# Altium schematic symbol library AP3402KTTR-G1.SchLib: 1 symbol
Pins are listed as number, name and electrical type; pins without a type are passive.

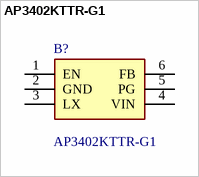
[diagram p0: symbol AP3402KTTR-G1]

## AP3402KTTR-G1
designator B?
Switching Voltage Regulators 1.0MHz 2A Step Down DC-DC Buck 2A Output; Manufacturer_Name: Diodes Inc.; Geometry.Height: 1mm; Manufacturer_Part_Number: AP3402KTTR-G1; Mouser Part Number: 621-AP3402KTTR-G1; Mouser Price/Stock: https://www.mouser.co.uk/ProductDetail/Diodes-Incorporated/AP3402KTTR-G1?qs=LJyqx%252Bm7g4f%252B%2FVb1cFR9iQ%3D%3D; Arrow Part Number: AP3402KTTR-G1; Arrow Price/Stock: https://www.arrow.com/en/products/ap3402kttr-g1/diodes-incorporated?region=nac; Datasheet Link: https://datasheet.datasheetarchive.com/originals/distributors/DKDS-29/576309.pdf
footprint SOT95P280X100-6N
pins: 1 EN, 2 GND, 3 LX, 4 VIN, 5 PG, 6 FB